# Altium integrated library C0805C180J5GACTU.IntLib: 1 symbol
Pins are listed as number, name and electrical type; pins without a type are passive.

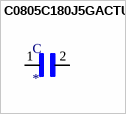
[diagram p0: symbol C0805C180J5GACTU]

## C0805C180J5GACTU
designator C
18pF Â±5% 50V Ceramic Capacitor C0G, NP0 0805 _2012 Metric_; MF: KEMET; MP: C0805C180J5GACTU; SnapEDA_Link: https://www.snapeda.com/parts/C0805C180J5GACTU/KEMET/view-part/567052/?ref=snap; Price: None; Value: *; Availability: Unavailable; Package: 2012 KEMET
footprint CAPC2012X88N
pins: 1, 2